# EAGLE library part MAX3392 (library PNP)
Logic Level Translator, 3 Hi to Lo, 1 Lo to Hi. For SPI Bus.
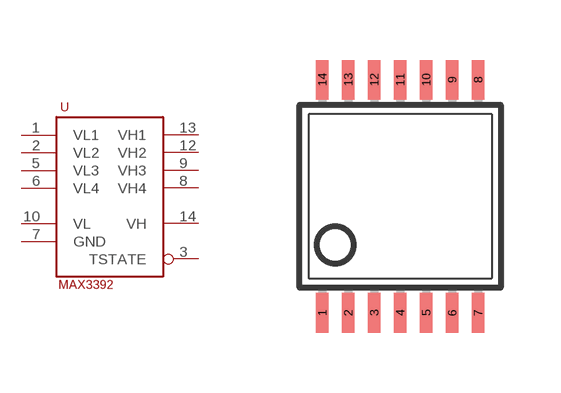
[diagram p4: symbol with the pads of TSSOP14; footprint TSSOP14]

Designator prefix -

## MAX3392 (DIGIKEY: MAX3392EEUD+-ND; MFN: MAX3392EEUD+)  [TSSOP14]
1  VL1  out
2  VL2  out
3  TSTATE  in
5  VL3  out
6  VL4  in
7  GND  pwr
8  VH4
9  VH3  in
10  VL  pwr
12  VH2  in
13  VH1  in
14  VH  pwr

## Footprint TSSOP14 (pad centres in mm)
Thin Shrink Small Outline Plastic 14 MAX3223-MAX3243.pdf
smd 0.305 x 0.991: 1 -1.95,-2.918; 2 -1.3,-2.918; 3 -0.65,-2.918; 4 0,-2.918; 5 0.65,-2.918; 6 1.3,-2.918; 7 1.95,-2.918; 8 1.95,2.918; 9 1.3,2.918; 10 0.65,2.918; 11 0,2.918; 12 -0.65,2.918; 13 -1.3,2.918; 14 -1.95,2.918